# EAGLE library part GY-521 (library ECE362)
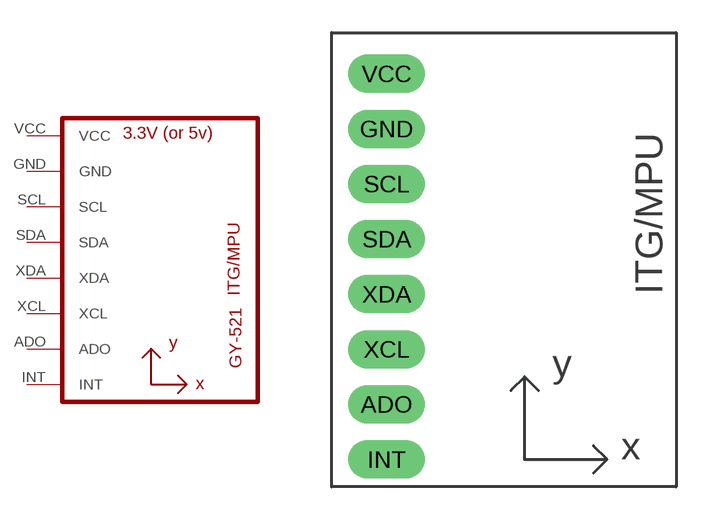
[diagram p2: symbol with the pads of GY-521; footprint GY-521]

Designator prefix U

## GY-521MPU6050  [GY-521]
ADO  ADO
GND  GND
INT  INT
SCL  SCL
SDA  SDA
VCC  VCC
XCL  XCL
XDA  XDA

## Footprint GY-521 (pad centres in mm)
drill 0.8 pad 1.778 long: ADO -8.89,-6.35; GND -8.89,6.35; INT -8.89,-8.89; SCL -8.89,3.81; SDA -8.89,1.27; VCC -8.89,8.89; XCL -8.89,-3.81; XDA -8.89,-1.27